# Altium schematic symbol library WE-DCT.SchLib: 15 symbols
Pins are listed as number, name and electrical type; pins without a type are passive.

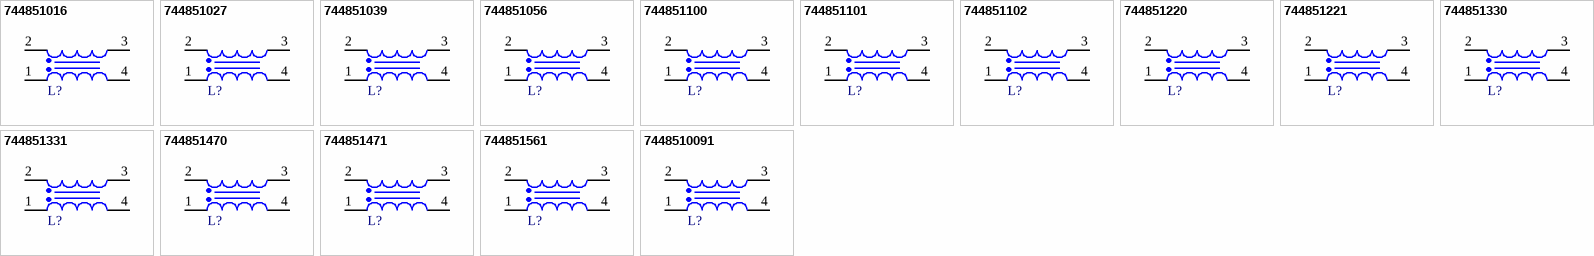
[diagram p0: symbols 744851016 to 7448510091]

## 744851016
designator L?, comment 0.16µH, 13.8A  (value not drawn)
WE-DCT SMT Toroidal Double Power Choke, type SH, 0.16µH, 13.8A, 4.4mΩ; Manufacturer Part Number: 744851016; Manufacturer: Wurth Elektronik; Case/Size Code: type SH; DC Resistance 1: 3.4mΩ; Saturation Current: 90A; Category: Coupled Power Inductors; Match Code: WE-DCT; ComponentLink1Description: Website Link; ComponentLink1URL: https://www.we-online.com/redexpert/article/744851016?ad; ComponentLink2Description: Datasheet Link; ComponentLink2URL: https://www.we-online.com/redexpert/spec/744851016?ad; Mount: Surface Mount; Operating Temperature Max: 125°C; Operating Temperature Min: -40°C; Packaging: Tape and Reel; Length: 23mm; Width: 18.5mm; Height: 11.5mm; DC Resistance 2: 3.4mΩ; DC Resistance Max 1: 4.4mΩ; DC Resistance Max 2: 4.4mΩ; Inductance 1: 0.16µH; Inductance 2: 0.16µH; Rated Current 1: 13.8A; Rated Current 2: 13.8A
footprint WE-DCT_type SH
pins: 1, 2, 3, 4

## 744851027
designator L?, comment 0.27µH, 12.3A  (value not drawn)
WE-DCT SMT Toroidal Double Power Choke, type SH, 0.27µH, 12.3A, 5mΩ; Manufacturer Part Number: 744851027; Manufacturer: Wurth Elektronik; Case/Size Code: type SH; DC Resistance 1: 4mΩ; Saturation Current: 65A; Category: Coupled Power Inductors; Match Code: WE-DCT; ComponentLink1Description: Website Link; ComponentLink1URL: https://www.we-online.com/redexpert/article/744851027?ad; ComponentLink2Description: Datasheet Link; ComponentLink2URL: https://www.we-online.com/redexpert/spec/744851027?ad; Mount: Surface Mount; Operating Temperature Max: 125°C; Operating Temperature Min: -40°C; Packaging: Tape and Reel; Length: 23mm; Width: 18.5mm; Height: 11.5mm; DC Resistance 2: 4mΩ; DC Resistance Max 1: 5mΩ; DC Resistance Max 2: 5mΩ; Inductance 1: 0.27µH; Inductance 2: 0.27µH; Rated Current 1: 12.3A; Rated Current 2: 12.3A
footprint WE-DCT_type SH
simulation model SH_744851027_0.27u
pins: 1, 2, 3, 4

## 744851039
designator L?, comment 0.39µH, 10.6A  (value not drawn)
WE-DCT SMT Toroidal Double Power Choke, type SH, 0.39µH, 10.6A, 6mΩ; Manufacturer Part Number: 744851039; Manufacturer: Wurth Elektronik; Case/Size Code: type SH; DC Resistance 1: 4.7mΩ; Saturation Current: 50A; Category: Coupled Power Inductors; Match Code: WE-DCT; ComponentLink1Description: Website Link; ComponentLink1URL: https://www.we-online.com/redexpert/article/744851039?ad; ComponentLink2Description: Datasheet Link; ComponentLink2URL: https://www.we-online.com/redexpert/spec/744851039?ad; Mount: Surface Mount; Operating Temperature Max: 125°C; Operating Temperature Min: -40°C; Packaging: Tape and Reel; Length: 23mm; Width: 18.5mm; Height: 11.5mm; DC Resistance 2: 4.7mΩ; DC Resistance Max 1: 6mΩ; DC Resistance Max 2: 6mΩ; Inductance 1: 0.39µH; Inductance 2: 0.39µH; Rated Current 1: 10.6A; Rated Current 2: 10.6A
footprint WE-DCT_type SH
simulation model SH_744851039_0.39u
pins: 1, 2, 3, 4

## 744851056
designator L?, comment 0.56µH, 9.8A  (value not drawn)
WE-DCT SMT Toroidal Double Power Choke, type SH, 0.56µH, 9.8A, 6.7mΩ; Manufacturer Part Number: 744851056; Manufacturer: Wurth Elektronik; Case/Size Code: type SH; DC Resistance 1: 5.3mΩ; Saturation Current: 40A; Category: Coupled Power Inductors; Match Code: WE-DCT; ComponentLink1Description: Website Link; ComponentLink1URL: https://www.we-online.com/redexpert/article/744851056?ad; ComponentLink2Description: Datasheet Link; ComponentLink2URL: https://www.we-online.com/redexpert/spec/744851056?ad; Mount: Surface Mount; Operating Temperature Max: 125°C; Operating Temperature Min: -40°C; Packaging: Tape and Reel; Length: 23mm; Width: 18.5mm; Height: 11.5mm; DC Resistance 2: 5.3mΩ; DC Resistance Max 1: 6.7mΩ; DC Resistance Max 2: 6.7mΩ; Inductance 1: 0.56µH; Inductance 2: 0.56µH; Rated Current 1: 9.8A; Rated Current 2: 9.8A
footprint WE-DCT_type SH
pins: 1, 2, 3, 4

## 744851100
designator L?, comment 1µH, 8.6A  (value not drawn)
WE-DCT SMT Toroidal Double Power Choke, type SH, 1µH, 8.6A, 8.5mΩ; Manufacturer Part Number: 744851100; Manufacturer: Wurth Elektronik; Case/Size Code: type SH; DC Resistance 1: 7.4mΩ; Saturation Current: 30A; Category: Coupled Power Inductors; Match Code: WE-DCT; ComponentLink1Description: Website Link; ComponentLink1URL: https://www.we-online.com/redexpert/article/744851100?ad; ComponentLink2Description: Datasheet Link; ComponentLink2URL: https://www.we-online.com/redexpert/spec/744851100?ad; Mount: Surface Mount; Operating Temperature Max: 125°C; Operating Temperature Min: -40°C; Packaging: Tape and Reel; Length: 23mm; Width: 18.5mm; Height: 11.5mm; DC Resistance 2: 7.4mΩ; DC Resistance Max 1: 8.5mΩ; DC Resistance Max 2: 8.5mΩ; Inductance 1: 1µH; Inductance 2: 1µH; Rated Current 1: 8.6A; Rated Current 2: 8.6A
footprint WE-DCT_type SH
simulation model SH_744851100_1u
pins: 1, 2, 3, 4

## 744851101
designator L?, comment 10µH, 5.3A  (value not drawn)
WE-DCT SMT Toroidal Double Power Choke, type SH, 10µH, 5.3A, 22mΩ; Manufacturer Part Number: 744851101; Manufacturer: Wurth Elektronik; Case/Size Code: type SH; DC Resistance 1: 18.4mΩ; Saturation Current: 8A; Category: Coupled Power Inductors; Match Code: WE-DCT; ComponentLink1Description: Website Link; ComponentLink1URL: https://www.we-online.com/redexpert/article/744851101?ad; ComponentLink2Description: Datasheet Link; ComponentLink2URL: https://www.we-online.com/redexpert/spec/744851101?ad; Mount: Surface Mount; Operating Temperature Max: 125°C; Operating Temperature Min: -40°C; Packaging: Tape and Reel; Length: 23mm; Width: 18.5mm; Height: 11.5mm; DC Resistance 2: 18.4mΩ; DC Resistance Max 1: 22mΩ; DC Resistance Max 2: 22mΩ; Inductance 1: 10µH; Inductance 2: 10µH; Rated Current 1: 5.3A; Rated Current 2: 5.3A
footprint WE-DCT_type SH
pins: 1, 2, 3, 4

## 744851102
designator L?, comment 100µH, 1.1A  (value not drawn)
WE-DCT SMT Toroidal Double Power Choke, type SH, 100µH, 1.1A, 290mΩ; Manufacturer Part Number: 744851102; Manufacturer: Wurth Elektronik; Case/Size Code: type SH; DC Resistance 1: 265mΩ; Saturation Current: 1.3A; Category: Coupled Power Inductors; Match Code: WE-DCT; ComponentLink1Description: Website Link; ComponentLink1URL: https://www.we-online.com/redexpert/article/744851102?ad; ComponentLink2Description: Datasheet Link; ComponentLink2URL: https://www.we-online.com/redexpert/spec/744851102?ad; Mount: Surface Mount; Operating Temperature Max: 125°C; Operating Temperature Min: -40°C; Packaging: Tape and Reel; Length: 23mm; Width: 18.5mm; Height: 11.5mm; DC Resistance 2: 265mΩ; DC Resistance Max 1: 290mΩ; DC Resistance Max 2: 290mΩ; Inductance 1: 100µH; Inductance 2: 100µH; Rated Current 1: 1.1A; Rated Current 2: 1.1A
footprint WE-DCT_type SH
simulation model SH_744851102_100u
pins: 1, 2, 3, 4

## 744851220
designator L?, comment 2.2µH, 8.6A  (value not drawn)
WE-DCT SMT Toroidal Double Power Choke, type SH, 2.2µH, 8.6A, 8.5mΩ; Manufacturer Part Number: 744851220; Manufacturer: Wurth Elektronik; Case/Size Code: type SH; DC Resistance 1: 7.4mΩ; Saturation Current: 17A; Category: Coupled Power Inductors; Match Code: WE-DCT; ComponentLink1Description: Website Link; ComponentLink1URL: https://www.we-online.com/redexpert/article/744851220?ad; ComponentLink2Description: Datasheet Link; ComponentLink2URL: https://www.we-online.com/redexpert/spec/744851220?ad; Mount: Surface Mount; Operating Temperature Max: 125°C; Operating Temperature Min: -40°C; Packaging: Tape and Reel; Length: 23mm; Width: 18.5mm; Height: 11.5mm; DC Resistance 2: 7.4mΩ; DC Resistance Max 1: 8.5mΩ; DC Resistance Max 2: 8.5mΩ; Inductance 1: 2.2µH; Inductance 2: 2.2µH; Rated Current 1: 8.6A; Rated Current 2: 8.6A
footprint WE-DCT_type SH
simulation model SH_744851220_2.2u
pins: 1, 2, 3, 4

## 744851221
designator L?, comment 22µH, 3.5A  (value not drawn)
WE-DCT SMT Toroidal Double Power Choke, type SH, 22µH, 3.5A, 45mΩ; Manufacturer Part Number: 744851221; Manufacturer: Wurth Elektronik; Case/Size Code: type SH; DC Resistance 1: 34mΩ; Saturation Current: 2.7A; Category: Coupled Power Inductors; Match Code: WE-DCT; ComponentLink1Description: Website Link; ComponentLink1URL: https://www.we-online.com/redexpert/article/744851221?ad; ComponentLink2Description: Datasheet Link; ComponentLink2URL: https://www.we-online.com/redexpert/spec/744851221?ad; Mount: Surface Mount; Operating Temperature Max: 125°C; Operating Temperature Min: -40°C; Packaging: Tape and Reel; Length: 23mm; Width: 18.5mm; Height: 11.5mm; DC Resistance 2: 34mΩ; DC Resistance Max 1: 45mΩ; DC Resistance Max 2: 45mΩ; Inductance 1: 22µH; Inductance 2: 22µH; Rated Current 1: 3.5A; Rated Current 2: 3.5A
footprint WE-DCT_type SH
simulation model SH_744851221_22u
pins: 1, 2, 3, 4

## 744851330
designator L?, comment 3.3µH, 7.7A  (value not drawn)
WE-DCT SMT Toroidal Double Power Choke, type SH, 3.3µH, 7.7A, 12mΩ; Manufacturer Part Number: 744851330; Manufacturer: Wurth Elektronik; Case/Size Code: type SH; DC Resistance 1: 9mΩ; Saturation Current: 13.5A; Category: Coupled Power Inductors; Match Code: WE-DCT; ComponentLink1Description: Website Link; ComponentLink1URL: https://www.we-online.com/redexpert/article/744851330?ad; ComponentLink2Description: Datasheet Link; ComponentLink2URL: https://www.we-online.com/redexpert/spec/744851330?ad; Mount: Surface Mount; Operating Temperature Max: 125°C; Operating Temperature Min: -40°C; Packaging: Tape and Reel; Length: 23mm; Width: 18.5mm; Height: 11.5mm; DC Resistance 2: 9mΩ; DC Resistance Max 1: 12mΩ; DC Resistance Max 2: 12mΩ; Inductance 1: 3.3µH; Inductance 2: 3.3µH; Rated Current 1: 7.7A; Rated Current 2: 7.7A
footprint WE-DCT_type SH
simulation model SH_744851330_3.3u
pins: 1, 2, 3, 4

## 744851331
designator L?, comment 33µH, 2.5A  (value not drawn)
WE-DCT SMT Toroidal Double Power Choke, type SH, 33µH, 2.5A, 70mΩ; Manufacturer Part Number: 744851331; Manufacturer: Wurth Elektronik; Case/Size Code: type SH; DC Resistance 1: 61mΩ; Saturation Current: 2.25A; Category: Coupled Power Inductors; Match Code: WE-DCT; ComponentLink1Description: Website Link; ComponentLink1URL: https://www.we-online.com/redexpert/article/744851331?ad; ComponentLink2Description: Datasheet Link; ComponentLink2URL: https://www.we-online.com/redexpert/spec/744851331?ad; Mount: Surface Mount; Operating Temperature Max: 125°C; Operating Temperature Min: -40°C; Packaging: Tape and Reel; Length: 23mm; Width: 18.5mm; Height: 11.5mm; DC Resistance 2: 61mΩ; DC Resistance Max 1: 70mΩ; DC Resistance Max 2: 70mΩ; Inductance 1: 33µH; Inductance 2: 33µH; Rated Current 1: 2.5A; Rated Current 2: 2.5A
footprint WE-DCT_type SH
pins: 1, 2, 3, 4

## 744851470
designator L?, comment 4.7µH, 7.2A  (value not drawn)
WE-DCT SMT Toroidal Double Power Choke, type SH, 4.7µH, 7.2A, 14mΩ; Manufacturer Part Number: 744851470; Manufacturer: Wurth Elektronik; Case/Size Code: type SH; DC Resistance 1: 10.3mΩ; Saturation Current: 11A; Category: Coupled Power Inductors; Match Code: WE-DCT; ComponentLink1Description: Website Link; ComponentLink1URL: https://www.we-online.com/redexpert/article/744851470?ad; ComponentLink2Description: Datasheet Link; ComponentLink2URL: https://www.we-online.com/redexpert/spec/744851470?ad; Mount: Surface Mount; Operating Temperature Max: 125°C; Operating Temperature Min: -40°C; Packaging: Tape and Reel; Length: 23mm; Width: 18.5mm; Height: 11.5mm; DC Resistance 2: 10.3mΩ; DC Resistance Max 1: 14mΩ; DC Resistance Max 2: 14mΩ; Inductance 1: 4.7µH; Inductance 2: 4.7µH; Rated Current 1: 7.2A; Rated Current 2: 7.2A
footprint WE-DCT_type SH
simulation model SH_744851470_4.7u
pins: 1, 2, 3, 4

## 744851471
designator L?, comment 47µH, 1.6A  (value not drawn)
WE-DCT SMT Toroidal Double Power Choke, type SH, 47µH, 1.6A, 160mΩ; Manufacturer Part Number: 744851471; Manufacturer: Wurth Elektronik; Case/Size Code: type SH; DC Resistance 1: 130mΩ; Saturation Current: 2A; Category: Coupled Power Inductors; Match Code: WE-DCT; ComponentLink1Description: Website Link; ComponentLink1URL: https://www.we-online.com/redexpert/article/744851471?ad; ComponentLink2Description: Datasheet Link; ComponentLink2URL: https://www.we-online.com/redexpert/spec/744851471?ad; Mount: Surface Mount; Operating Temperature Max: 125°C; Operating Temperature Min: -40°C; Packaging: Tape and Reel; Length: 23mm; Width: 18.5mm; Height: 11.5mm; DC Resistance 2: 130mΩ; DC Resistance Max 1: 160mΩ; DC Resistance Max 2: 160mΩ; Inductance 1: 47µH; Inductance 2: 47µH; Rated Current 1: 1.6A; Rated Current 2: 1.6A
footprint WE-DCT_type SH
simulation model SH_744851471_47u
pins: 1, 2, 3, 4

## 744851561
designator L?, comment 56µH, 1.5A  (value not drawn)
WE-DCT SMT Toroidal Double Power Choke, type SH, 56µH, 1.5A, 170mΩ; Manufacturer Part Number: 744851561; Manufacturer: Wurth Elektronik; Case/Size Code: type SH; DC Resistance 1: 140mΩ; Saturation Current: 8A; Category: Coupled Power Inductors; Match Code: WE-DCT; ComponentLink1Description: Website Link; ComponentLink1URL: https://www.we-online.com/redexpert/article/744851561?ad; ComponentLink2Description: Datasheet Link; ComponentLink2URL: https://www.we-online.com/redexpert/spec/744851561?ad; Mount: Surface Mount; Operating Temperature Max: 125°C; Operating Temperature Min: -40°C; Packaging: Tape and Reel; Length: 23mm; Width: 18.5mm; Height: 11.5mm; DC Resistance 2: 140mΩ; DC Resistance Max 1: 170mΩ; DC Resistance Max 2: 170mΩ; Inductance 1: 56µH; Inductance 2: 56µH; Rated Current 1: 1.5A; Rated Current 2: 1.5A
footprint WE-DCT_type SH
pins: 1, 2, 3, 4

## 7448510091
designator L?, comment 0.091µH, 14.5A  (value not drawn)
WE-DCT SMT Toroidal Double Power Choke, type SH, 0.091µH, 14.5A, 3.5mΩ; Manufacturer Part Number: 7448510091; Manufacturer: Wurth Elektronik; Case/Size Code: type SH; DC Resistance 1: 2.8mΩ; Saturation Current: 120A; Category: Coupled Power Inductors; Match Code: WE-DCT; ComponentLink1Description: Website Link; ComponentLink1URL: https://www.we-online.com/redexpert/article/7448510091?ad; ComponentLink2Description: Datasheet Link; ComponentLink2URL: https://www.we-online.com/redexpert/spec/7448510091?ad; Mount: Surface Mount; Operating Temperature Max: 125°C; Operating Temperature Min: -40°C; Packaging: Tape and Reel; Length: 23mm; Width: 18.5mm; Height: 11.5mm; DC Resistance 2: 2.8mΩ; DC Resistance Max 1: 3.5mΩ; DC Resistance Max 2: 3.5mΩ; Inductance 1: 0.091µH; Inductance 2: 0.091µH; Rated Current 1: 14.5A; Rated Current 2: 14.5A
footprint WE-DCT_type SH
simulation model SH_7448510091_91n
pins: 1, 2, 3, 4